# Altium footprint library UDFN-8.PcbLib: 1 footprints
Each footprint in its own frame and in the unit in brackets; x right, y up, seen from the top. Pads: shape width x height; smd on the part's side, far side on the other; paste and mask are expansions set on the pad; w line width, h text height; cw(c..) or ccw(c..) is an arc to the next point about the centre after c.
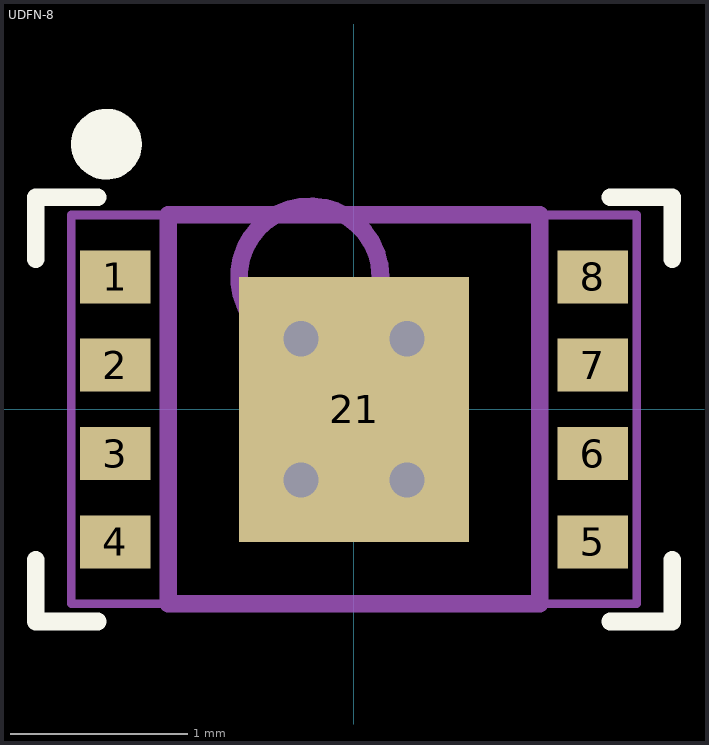
[diagram p0: the footprint, top view; thin cyan lines are the x and y axes]

## UDFN-8 [mm] "UDFN, 8-Leads, Body 3.00x2.00mm, Pitch 0.50mm, Thermal Pad 1.30x1.50mm, IPC High Density"
height 0.6
pads (17):
  rect 0.4x0.3 smd: 1(-1.35,0.75) 2(-1.35,0.25) 3(-1.35,-0.25) 4(-1.35,-0.75) 5(1.35,-0.75) 6(1.35,-0.25) 7(1.35,0.25) 8(1.35,0.75)
  rect 0x0 smd: 13(-0.85,0) 14(-0.35,0) 15(0,0.85) 16(0,0.35) 17(0.85,0) 18(0.35,0) 19(0,-0.85) 20(0,-0.35)
  rect 1.3x1.5 smd: 21(0,0)
via 0.3,0.4 diameter 0.4 hole 0.2
via 0.3,-0.4 diameter 0.4 hole 0.2
via -0.3,0.4 diameter 0.4 hole 0.2
via -0.3,-0.4 diameter 0.4 hole 0.2
Top Overlay:
  circle w0.2: c-1.4,1.5 r0.1
  lines w0.1: -1.8,-0.85 -1.8,-1.2 -1.45,-1.2 ; -1.8,0.85 -1.8,1.2 -1.45,1.2 ; 1.45,-1.2 1.8,-1.2 1.8,-0.85 ; 1.45,1.2 1.8,1.2 1.8,0.85
Mechanical 13:
  circle w0.1: c-0.25,0.75 r0.4
  lines w0.1: -1.05,-1.1 -1.05,1.1 1.05,1.1 1.05,-1.1 -1.05,-1.1
Mechanical 15:
  lines w0.05: -1.6,-1.1 -1.6,1.1 1.6,1.1 1.6,-1.1 -1.6,-1.1
  lines w0.1: -0.5,0 0.5,0 ; 0,-0.5 0,0.5
3D body: height 0.6, standoff 0, extent -1.51,-1 1.51,1